# Altium footprint library 7Robot.PcbLib: 36 footprints (part 1 of 3)
Each footprint in its own frame and in the unit in brackets; x right, y up, seen from the top. Pads: shape width x height; smd on the part's side, far side on the other; paste and mask are expansions set on the pad; w line width, h text height; cw(c..) or ccw(c..) is an arc to the next point about the centre after c.
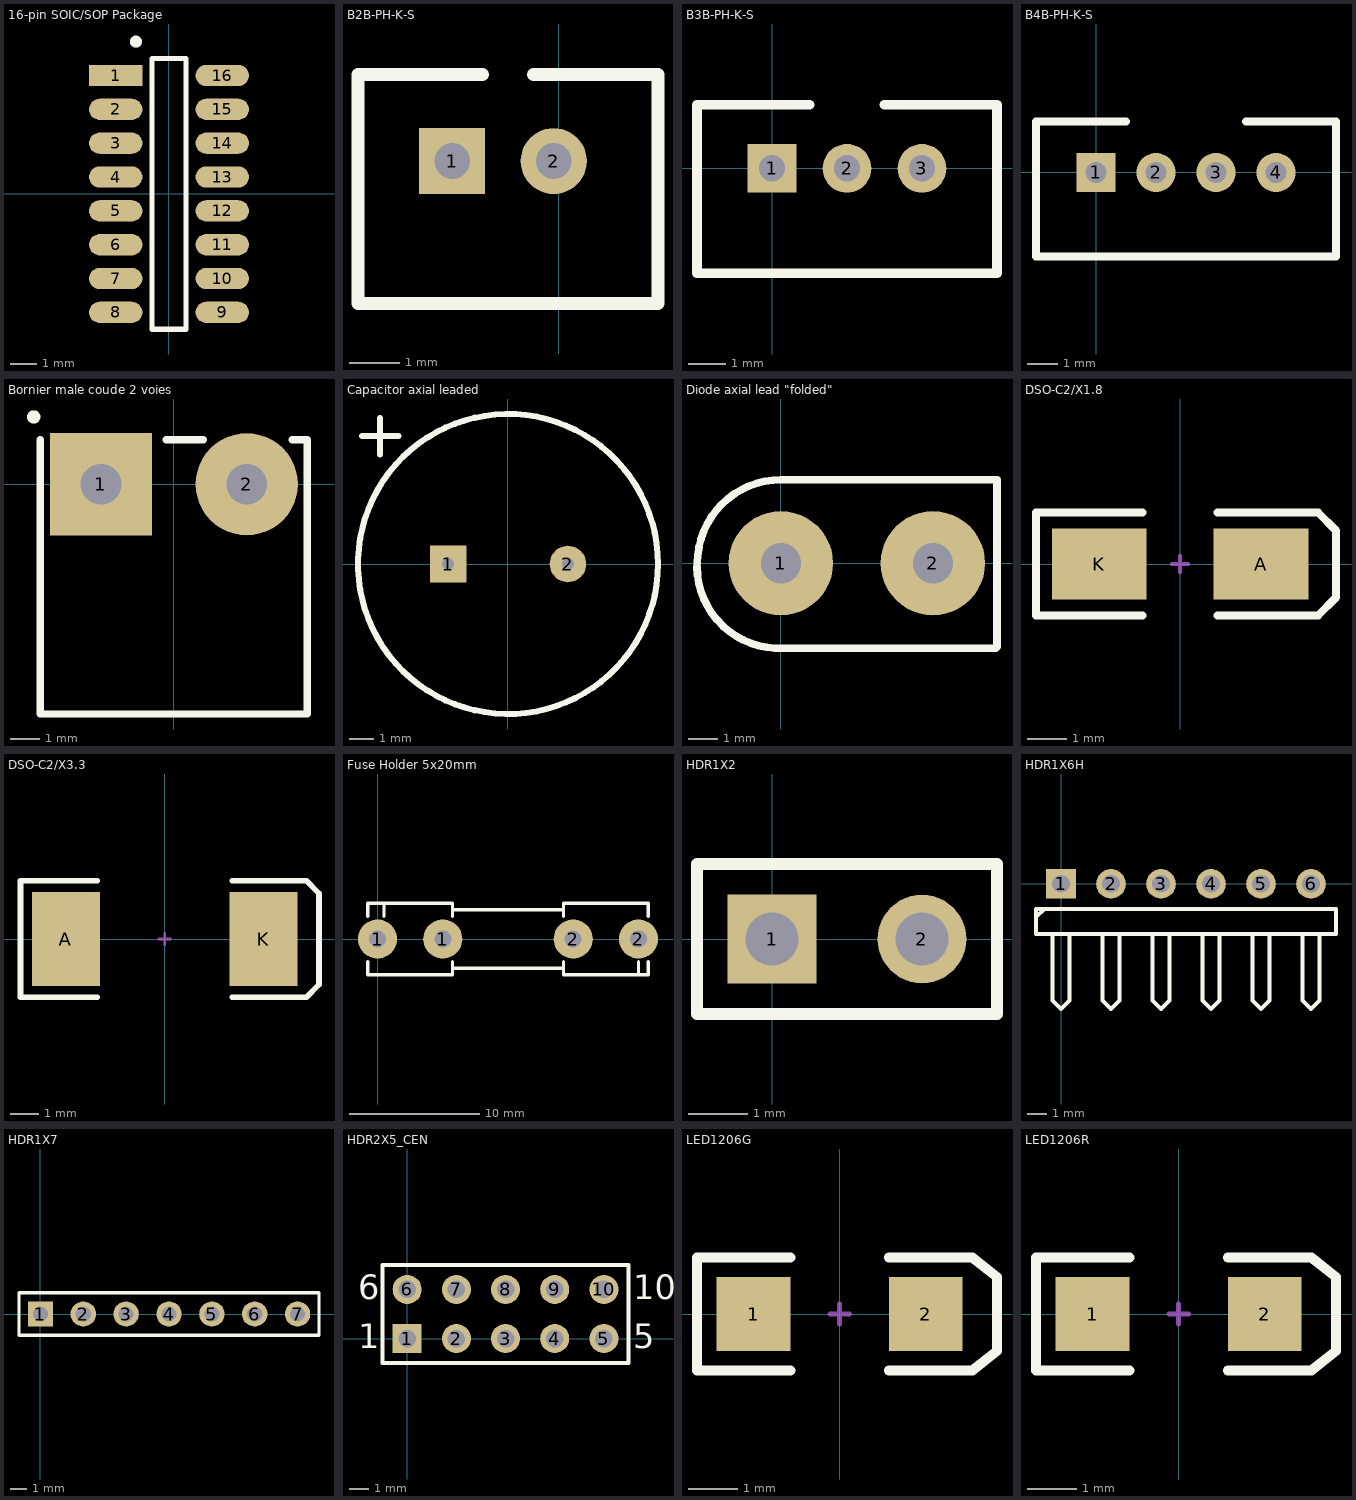
[diagram p0: the footprints below, top view; thin cyan lines are the x and y axes]

## 16-pin SOIC/SOP Package [mm]
pads (16):
  rect 2x0.8 smd: 1(-2,4.445)
  oval 2x0.8 smd: 2(-2,3.175) 3(-2,1.905) 4(-2,0.635) 5(-2,-0.635) 6(-2,-1.905) 7(-2,-3.175) 8(-2,-4.445) 9(2,-4.445) 10(2,-3.175) 11(2,-1.905) 12(2,-0.635) 13(2,0.635) 14(2,1.905) 15(2,3.175) 16(2,4.445)
Top Overlay:
  circle w0.254: c-1.243,5.715 r0.1
  lines w0.2: -0.635,-5.08 0.635,-5.08 0.635,5.08 -0.635,5.08 -0.635,-5.08

## B2B-PH-K-S [mm] "JST Header 2 pins Straight"
pads (2):
  rect 1.3x1.3 hole 0.7: 1(-2.1,5.7)
  round 1.3 hole 0.7: 2(-0.1,5.7)
Top Overlay:
  lines w0.254: -1.5,7.4 -3.95,7.4 -3.95,2.9 1.95,2.9 1.95,7.4 -0.5,7.4
3D body: height 6, standoff -3.4, extent -4.05,2.9 1.85,7.4

## B3B-PH-K-S [mm] "JST Header 3 pins Straight"
height 6
pads (3):
  rect 1.3x1.3 hole 0.7: 1(0,0)
  round 1.3 hole 0.7: 2(2,0) 3(4,0)
Top Overlay:
  lines w0.254: 1,1.7 -2,1.7 -2,-2.8 6,-2.8 6,1.7 3,1.7
3D body: height 6, standoff -3.4, extent -1.95,-2.8 5.95,1.7

## B4B-PH-K-S [mm] "JST Header 4 pins Straight"
height 6
pads (4):
  rect 1.3x1.3 hole 0.7: 1(0,0)
  round 1.3 hole 0.7: 2(2,0) 3(4,0) 4(6,0)
Top Overlay:
  lines w0.254: 1,1.7 -2,1.7 -2,-2.8 8,-2.8 8,1.7 5,1.7
3D body: height 6, standoff -3.4, extent -1.95,-2.8 7.95,1.7

## Bornier male coude 2 voies [mm] "Bornier male coude 2 voies 12A. Pas 5mm (model : CTB9350/2A)"
pads (2):
  rect 3.5x3.5 hole 1.4: 1(-2.5,0)
  round 3.5 hole 1.4: 2(2.5,0)
Top Overlay:
  circle w0.254: c-4.802,2.308 r0.1
  lines w0.254: -4.572,1.524 -4.572,-7.874 4.572,-7.874 4.572,1.524 4.064,1.524 ; -0.254,1.524 1.016,1.524
3D body: height 7.25, standoff -3.4, extent -4.2,-7.93 4.2,1.27

## Capacitor axial leaded [mm] "height x diam 20mm x 12.5mm"
height 20
pads (2):
  rect 1.524x1.524 hole 0.5: 1(-2.5,0)
  round 1.524 hole 0.5: 2(2.5,0)
Top Overlay:
  circle w0.254: c0,0 r6.257
  lines w0.254: -6.096,5.334 -4.572,5.334 ; -5.334,4.572 -5.334,6.096
3D body: height 20.01, standoff -2.7, extent -6.25,-6.25 6.206,6.25

## Diode axial lead "folded" [mm]
pads (2):
  round 3.5 hole 1.35: 1(0,0) 2(5.1,0)
Top Overlay:
  lines w0.254: -2.814,-0.123 ccw(c-0.059,-0.098) -0.2,-2.85 7.2,-2.85 ; -2.8,0 cw(c0,0) 0,2.8 0.55,2.8 7.25,2.8 7.25,-2.8
3D body: height 15.69, standoff -3, extent -2.8,-2.8 5.74,2.8

## DSO-C2/X1.8 [mm] "Diode; DO-214-AC/SMA; 2 C-Bend Leads; Body 5 x 2.7 mm, inc. leads (LxW)"
height 2.44
pads (2):
  rect 2.4x1.8 smd: A(2.05,0) K(-2.05,0)
Top Overlay:
  lines w0.2: -0.95,-1.3 -3.65,-1.3 -3.65,1.3 -0.95,1.3 ; 0.95,-1.3 3.5,-1.3 3.95,-0.85 3.95,0.85 3.5,1.3 0.95,1.3
Mechanical 1:
  lines w0.1: -0.2,0 0.2,0 ; 0,-0.2 0,0.2
3D body: height 2.28, standoff 0, extent -2.743,-1.397 2.743,1.397

## DSO-C2/X3.3 [mm] "DO-214-AB/SMC; 2 C-Bend Leads; Body 7.9 x 5.9 mm, inc. leads (LxW)"
height 2.57
pads (2):
  rect 2.4x3.3 smd: A(-3.475,0) K(3.475,0)
Top Overlay:
  lines w0.2: -2.375,-2.05 -5.075,-2.05 -5.075,2.05 -2.375,2.05 ; 2.375,-2.05 4.975,-2.05 5.425,-1.6 5.425,1.6 4.975,2.055 ; 2.375,2.05 4.975,2.05
Mechanical 1:
  lines w0.1: -0.2,0 0.2,0 ; 0,-0.2 0,0.2
3D body: height 2.67, standoff 0.03, extent -4.064,-3.15 4.064,3.15

## Fuse Holder 5x20mm [mm] "Schurter Fuse Holder 0751.0110"
height 10
pads (4):
  round 3 hole 1.3: 1(0,0) 1(5,0) 2(15,0) 2(20,0)
Top Overlay:
  lines w0.254: -0.75,-1.75 -0.75,-2.75 5.75,-2.75 5.75,-1.75 ; -0.75,1.75 -0.75,2.75 5.75,2.75 5.75,1.75 ; 0.5,1.75 0.5,2.75 ; 5.75,-2.25 14.25,-2.25 ; 5.75,2.25 14.25,2.25 ; 14.25,-1.75 14.25,-2.75 20.75,-2.75 20.75,-1.75 ; 14.25,1.75 14.25,2.75 20.75,2.75 20.75,1.75 ; 20,-2.75 20,-1.75
3D body: height 9.5, standoff 4.5, extent 0,-2.5 20,2.5
3D body: height 9.86, standoff -3.33, extent -0.51,-3.1 5.59,3.1
3D body: height 9.86, standoff -3.33, extent 14.476,-3.1 20.576,3.1

## HDR1X2 [mm] "Connector; Header; 2 Position"
pads (2):
  rect 1.5x1.5 hole 0.9: 1(0,0)
  round 1.5 hole 0.9: 2(2.54,0)
Top Overlay:
  lines w0.2: -1.27,-1.27 3.81,-1.27 3.81,1.27 -1.27,1.27 -1.27,-1.27
3D body: height 8.45, standoff -2.53, extent -1.27,-1.27 3.81,1.27

## HDR1X6H [mm] "Connector; Header; 6 Position; Right Angle"
pads (6):
  rect 1.5x1.5 hole 0.9: 1(0,0)
  round 1.5 hole 0.9: 2(2.54,0) 3(5.08,0) 4(7.62,0) 5(10.16,0) 6(12.7,0)
Top Overlay:
  lines w0.2: -1.27,-1.693 -0.847,-1.27 ; -0.423,-2.54 -0.423,-5.927 0,-6.35 0.423,-5.927 0.423,-2.54 ; 2.117,-2.54 2.117,-5.927 2.54,-6.35 2.963,-5.927 2.963,-2.54 ; 4.657,-2.54 4.657,-5.927 5.08,-6.35 5.503,-5.927 5.503,-2.54 ; 7.197,-2.54 7.197,-5.927 7.62,-6.35 8.043,-5.927 8.043,-2.54 ; 9.737,-2.54 9.737,-5.927 10.16,-6.35 10.583,-5.927 10.583,-2.54 ; 12.277,-2.54 12.277,-5.927 12.7,-6.35 13.123,-5.927 13.123,-2.54 ; -1.27,-2.54 -1.27,-1.27 13.97,-1.27 13.97,-2.54 -1.27,-2.54
3D body: height 3.08, standoff -2.3, extent -1.27,-10.155 13.97,0.325

## HDR1X7 [mm] "Connector; Header; 7 Position"
pads (7):
  rect 1.5x1.5 hole 0.9: 1(0,0)
  round 1.5 hole 0.9: 2(2.54,0) 3(5.08,0) 4(7.62,0) 5(10.16,0) 6(12.7,0) 7(15.24,0)
Top Overlay:
  lines w0.2: -1.27,-1.27 16.51,-1.27 16.51,1.27 -1.27,1.27 -1.27,-1.27
3D body: height 9.27, standoff -2.88, extent -1.27,-1.27 16.51,1.27

## HDR2X5_CEN [mm] "Connector; Header; 5x2 Position"
pads (10):
  rect 1.5x1.5 hole 0.9: 1(0,0)
  round 1.5 hole 0.9: 2(2.54,0) 3(5.08,0) 4(7.62,0) 5(10.16,0) 6(0,2.54) 7(2.54,2.54) 8(5.08,2.54) 9(7.62,2.54) 10(10.16,2.54)
Top Overlay:
  lines w0.2: -1.27,-1.27 -1.27,3.81 11.43,3.81 11.43,-1.27 -1.27,-1.27
  text "6" at -2.54,2.032 h1.27
  text "10" at 11.684,2.032 h1.27
  text "5" at 11.684,-0.508 h1.27
  text "1" at -2.54,-0.508 h1.27
3D body: height 2.2, standoff -9.9, extent -5.15,-3.3 15.35,6

## LED1206G [mm] "SMT LED; 2 Flat Leads; 3.2X1.6X1.1"
height 1.2
pads (2):
  rect 1.5x1.5 smd: 1(-1.75,0) 2(1.75,0)
Top Overlay:
  lines w0.2: -1,-1.15 -2.9,-1.15 -2.9,1.15 -1,1.15 ; 1,-1.15 2.7,-1.15 3.2,-0.75 3.2,0.75 2.7,1.15 1,1.15
Mechanical 1:
  lines w0.1: -0.2,0 0.2,0 ; 0,-0.2 0,0.2
3D body: height 1.11, standoff -0.4, extent -1.6,-0.8 1.6,0.8

## LED1206R [mm] "SMT LED; 2 Flat Leads; 3.2X1.6X1.1"
height 1.2
pads (2):
  rect 1.5x1.5 smd: 1(-1.75,0) 2(1.75,0)
Top Overlay:
  lines w0.2: -1,-1.15 -2.9,-1.15 -2.9,1.15 -1,1.15 ; 1,-1.15 2.7,-1.15 3.2,-0.75 3.2,0.75 2.7,1.15 1,1.15
Mechanical 1:
  lines w0.1: -0.2,0 0.2,0 ; 0,-0.2 0,0.2
3D body: height 1.11, standoff -0.4, extent -1.6,-0.8 1.6,0.8